# Altium schematic symbol library Components.SchLib: 7 symbols
Pins are listed as number, name and electrical type; pins without a type are passive.

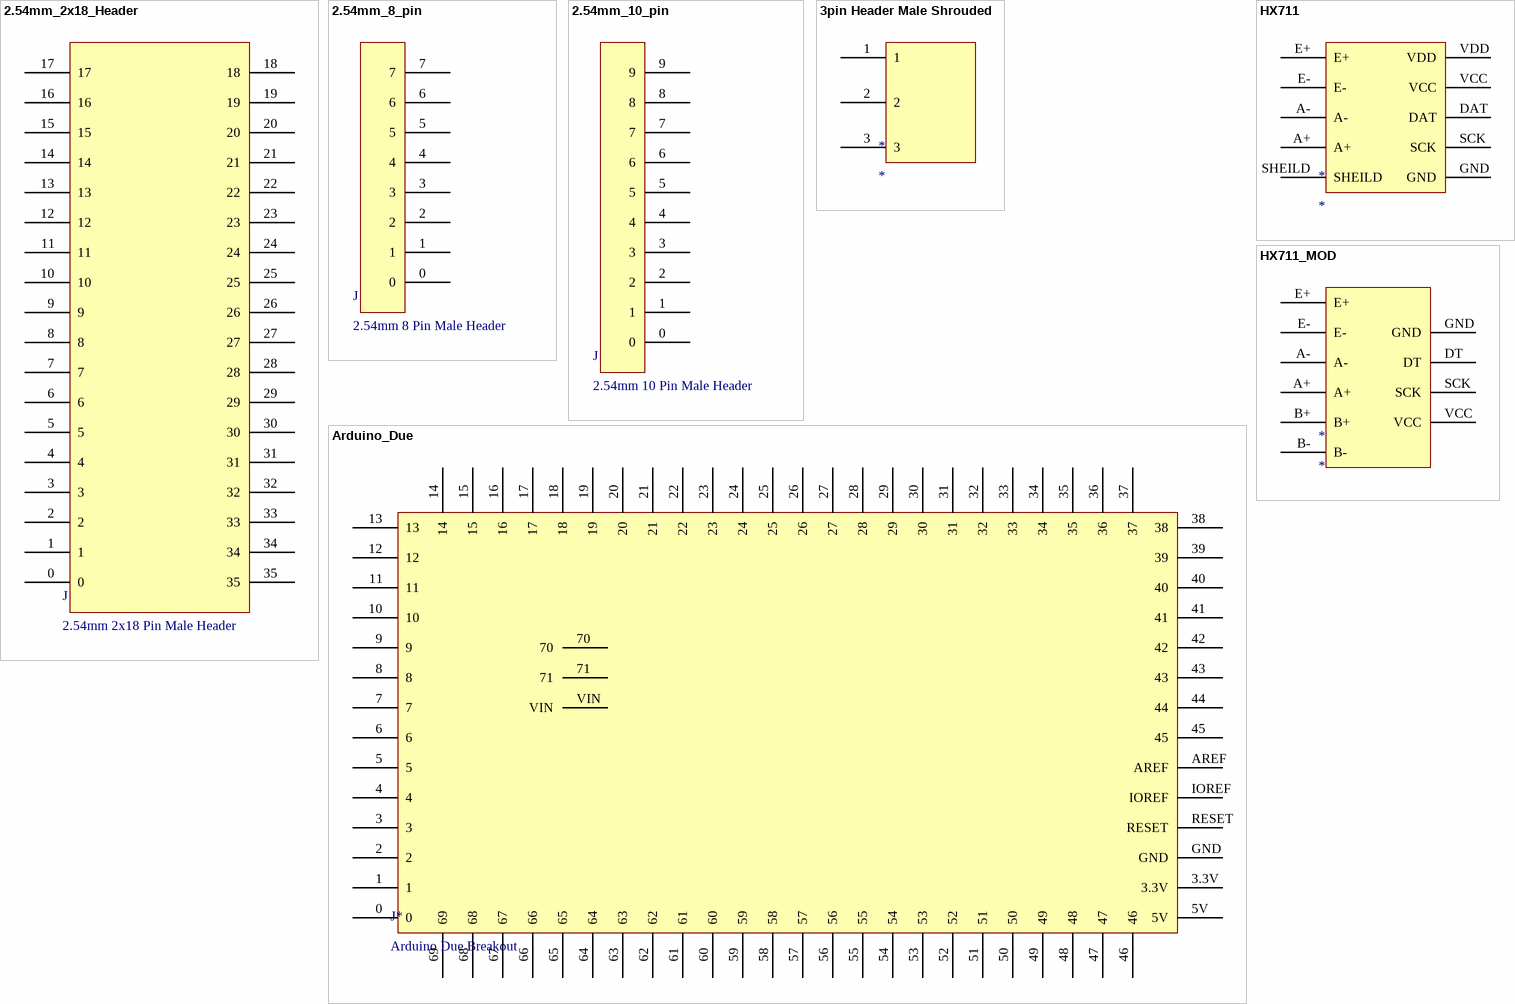
[diagram p0: symbols 2.54mm_2x18_Header to HX711_MOD]

## 2.54mm_2x18_Header
designator J, comment 2.54mm 2x18 Pin Male Header
footprint 2x18 2.54mm Pitch (Header)
pins: 0, 1, 2, 3, 4, 5, 6, 7, 8, 9, 10, 11, 12, 13, 14, 15, 16, 17, 18, 19, 20, 21, 22, 23, 24, 25, 26, 27, 28, 29, 30, 31, 32, 33, 34, 35

## 2.54mm_8_pin
designator J, comment 2.54mm 8 Pin Male Header
footprint 8pin 2.54mm pitch (Header)
pins: 0, 1, 2, 3, 4, 5, 6, 7

## 2.54mm_10_pin
designator J, comment 2.54mm 10 Pin Male Header
footprint 10pin 2.54mm pitch (Header)
pins: 0, 1, 2, 3, 4, 5, 6, 7, 8, 9

## 3pin Header Male Shrouded
designator *
footprint 3Pin Header (2.5mm pitch header male shrouded)
pins: 1, 2, 3

## Arduino_Due
designator J*, comment Arduino Due Breakout
footprint DUE_BREAKOUT
pins: 0, 1, 2, 3, 3.3V, 4, 5, 5V, 6, 7, 8, 9, 10, 11, 12, 13, 14, 15, 16, 17, 18, 19, 20, 21, 22, 23, 24, 25, 26, 27, 28, 29, 30, 31, 32, 33, 34, 35, 36, 37, 38, 39, 40, 41, 42, 43, 44, 45, 46, 47, 48, 49, 50, 51, 52, 53, 54, 55, 56, 57, 58, 59, 60, 61, 62, 63, 64, 65, 66, 67, 68, 69, 70, 71, AREF, GND, IOREF, RESET, VIN

## HX711
designator *
footprint HX711_BREAKOUT
pins: A+, A-, DAT, E+, E-, GND, SCK, SHEILD, VCC, VDD

## HX711_MOD
designator *
footprint HX711_MOD (the green one)
pins: A+, A-, B+, B-, DT, E+, E-, GND, SCK, VCC